# Altium schematic symbol library WCAP-FTX2_P10_CS.SchLib: 1 symbol
Pins are listed as number, name and electrical type; pins without a type are passive.

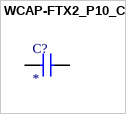
[diagram p0: symbol WCAP-FTX2_P10_CS]

## WCAP-FTX2_P10_CS
designator C?
WCAP-FTX2 Film Capacitor 100nF 275Vac ¦ Wurth Electronics 890324023023CS; MF: WÃ¼rth Elektronik; SnapEDA_Link: https://www.snapeda.com/parts/890324023023CS/W%25C3%25BCrth+Elektronik+Midcom/view-part/?ref=snap; Package: Radial WÃ¼rth Elektronik; Value: *; MP: 890324023023CS; Check_prices: https://www.snapeda.com/parts/890324023023CS/W%25C3%25BCrth+Elektronik+Midcom/view-part/?ref=eda
footprint WCAP-FTX2_P10L13W7H13_CS
pins: 1, 2